# EAGLE library part MA05-2W (library con-lstb)
PIN HEADER
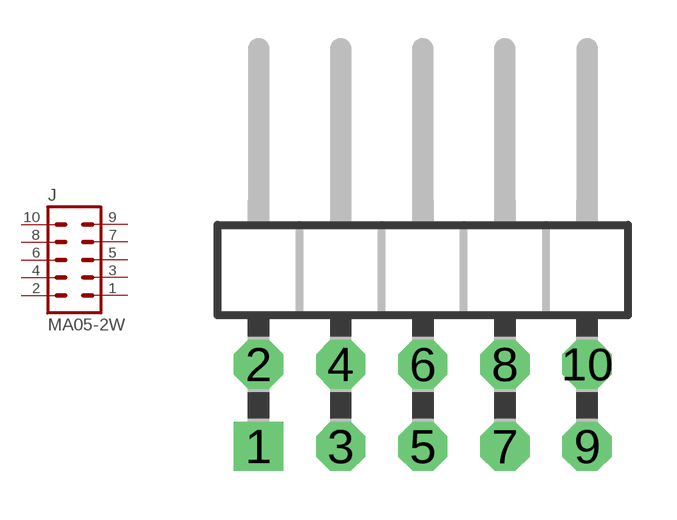
[diagram p37: symbol with the pads of MA05-2W; footprint MA05-2W]

Designator prefix J

## MA05-2W  [MA05-2W]
1  1  pas
2  2  pas
3  3  pas
4  4  pas
5  5  pas
6  6  pas
7  7  pas
8  8  pas
9  9  pas
10  10  pas

## Footprint MA05-2W (pad centres in mm)
PIN HEADER
drill 1.016 square: 1 -5.08,-5.08
drill 1.016 octagon: 2 -5.08,-2.54; 3 -2.54,-5.08; 4 -2.54,-2.54; 5 0,-5.08; 6 0,-2.54; 7 2.54,-5.08; 8 2.54,-2.54; 9 5.08,-5.08; 10 5.08,-2.54